# EAGLE library part 25AA010A (library Control Board Library)
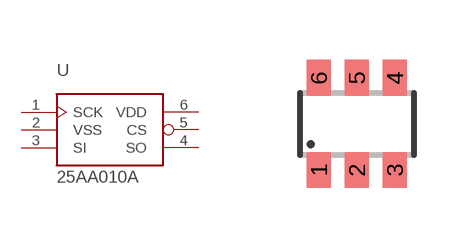
[diagram p0: symbol with the pads of SOT23-6; footprint SOT23-6]

Designator prefix -

## 25AA010A  [SOT23-6]
1  SCK  in
2  VSS  pwr
3  SI  in
4  SO  out
5  CS
6  VDD  pwr

## Footprint SOT23-6 (pad centres in mm)
Small Outline Transistor 6 lead
smd 0.6 x 0.9: 1 -0.95,-1.15; 2 0,-1.15; 3 0.95,-1.15; 4 0.95,1.15; 5 0,1.15; 6 -0.95,1.15